# EAGLE library part NC7WZ17 (library fairchild-semiconductor)
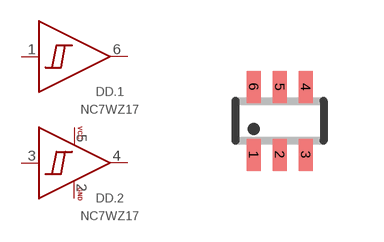
[diagram p6: symbol with the pads of SC70-6L; footprint SC70-6L]

Designator prefix DD; gates .1=SCHMITT_TRIGGER_NONINV .2=SCHMITT_TRIGGER_NONINV G$3=LOGIC_PWR

## NC7WZ17P6X  [SC70-6L]
1  .1:IN  in
2  G$3:GND
3  .2:IN  in
4  .2:OUT  out
5  G$3:VCC  pwr
6  .1:OUT  out

## Footprint SC70-6L (pad centres in mm)
SC-70 Package
smd 0.35 x 0.8: 1 -0.65,-0.85; 2 0,-0.85; 3 0.65,-0.85; 4 0.65,0.85; 5 0,0.85; 6 -0.65,0.85